# EAGLE library part CONN_07 (library dawidkulpa_con)
1x7 connector
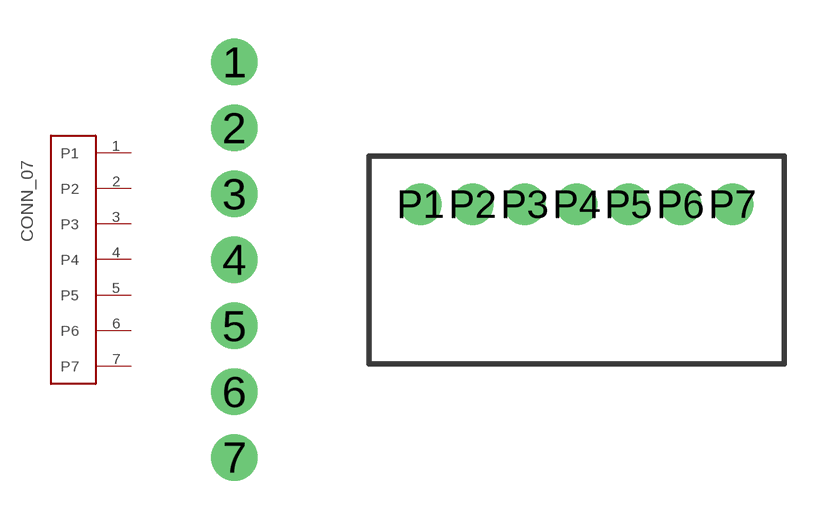
[diagram p10: symbol with the pads of GP_07M; footprints GP_07M, JST-ZH-S7]

Designator prefix -

## CONN_07GOLDPIN  [GP_07M]
1  P1
2  P2
3  P3
4  P4
5  P5
6  P6
7  P7

## CONN_07JST_ZH  [JST-ZH-S7]
P1  P1
P2  P2
P3  P3
P4  P4
P5  P5
P6  P6
P7  P7

## CONN_07JST-SRS  [JST-SR-S7]
Pads as for JST-ZH-S7

## Footprint GP_07M (pad centres in mm)
drill 1 pad 1.778: 1 0,7.62; 2 0,5.08; 3 0,2.54; 4 0,0; 5 0,-2.54; 6 0,-5.08; 7 0,-7.62

## Footprint JST-ZH-S7 (pad centres in mm)
drill 0.7 pad 1.2: P1 -4.5,0; P2 -3,0; P3 -1.5,0; P4 0,0; P5 1.5,0; P6 3,0; P7 4.5,0

## Footprint JST-SR-S7 (pad centres in mm)
smd 1.2 x 1.8: M1 -4.3,-3.875; M2 4.3,-3.875
smd 0.6 x 1.55: P1 -3,0; P2 -2,0; P3 -1,0; P4 0,0; P5 1,0; P6 2,0; P7 3,0